# Altium footprint library DCDC.PcbLib: 15 footprints
Each footprint in its own frame and in the unit in brackets; x right, y up, seen from the top. Pads: shape width x height; smd on the part's side, far side on the other; paste and mask are expansions set on the pad; w line width, h text height; cw(c..) or ccw(c..) is an arc to the next point about the centre after c.
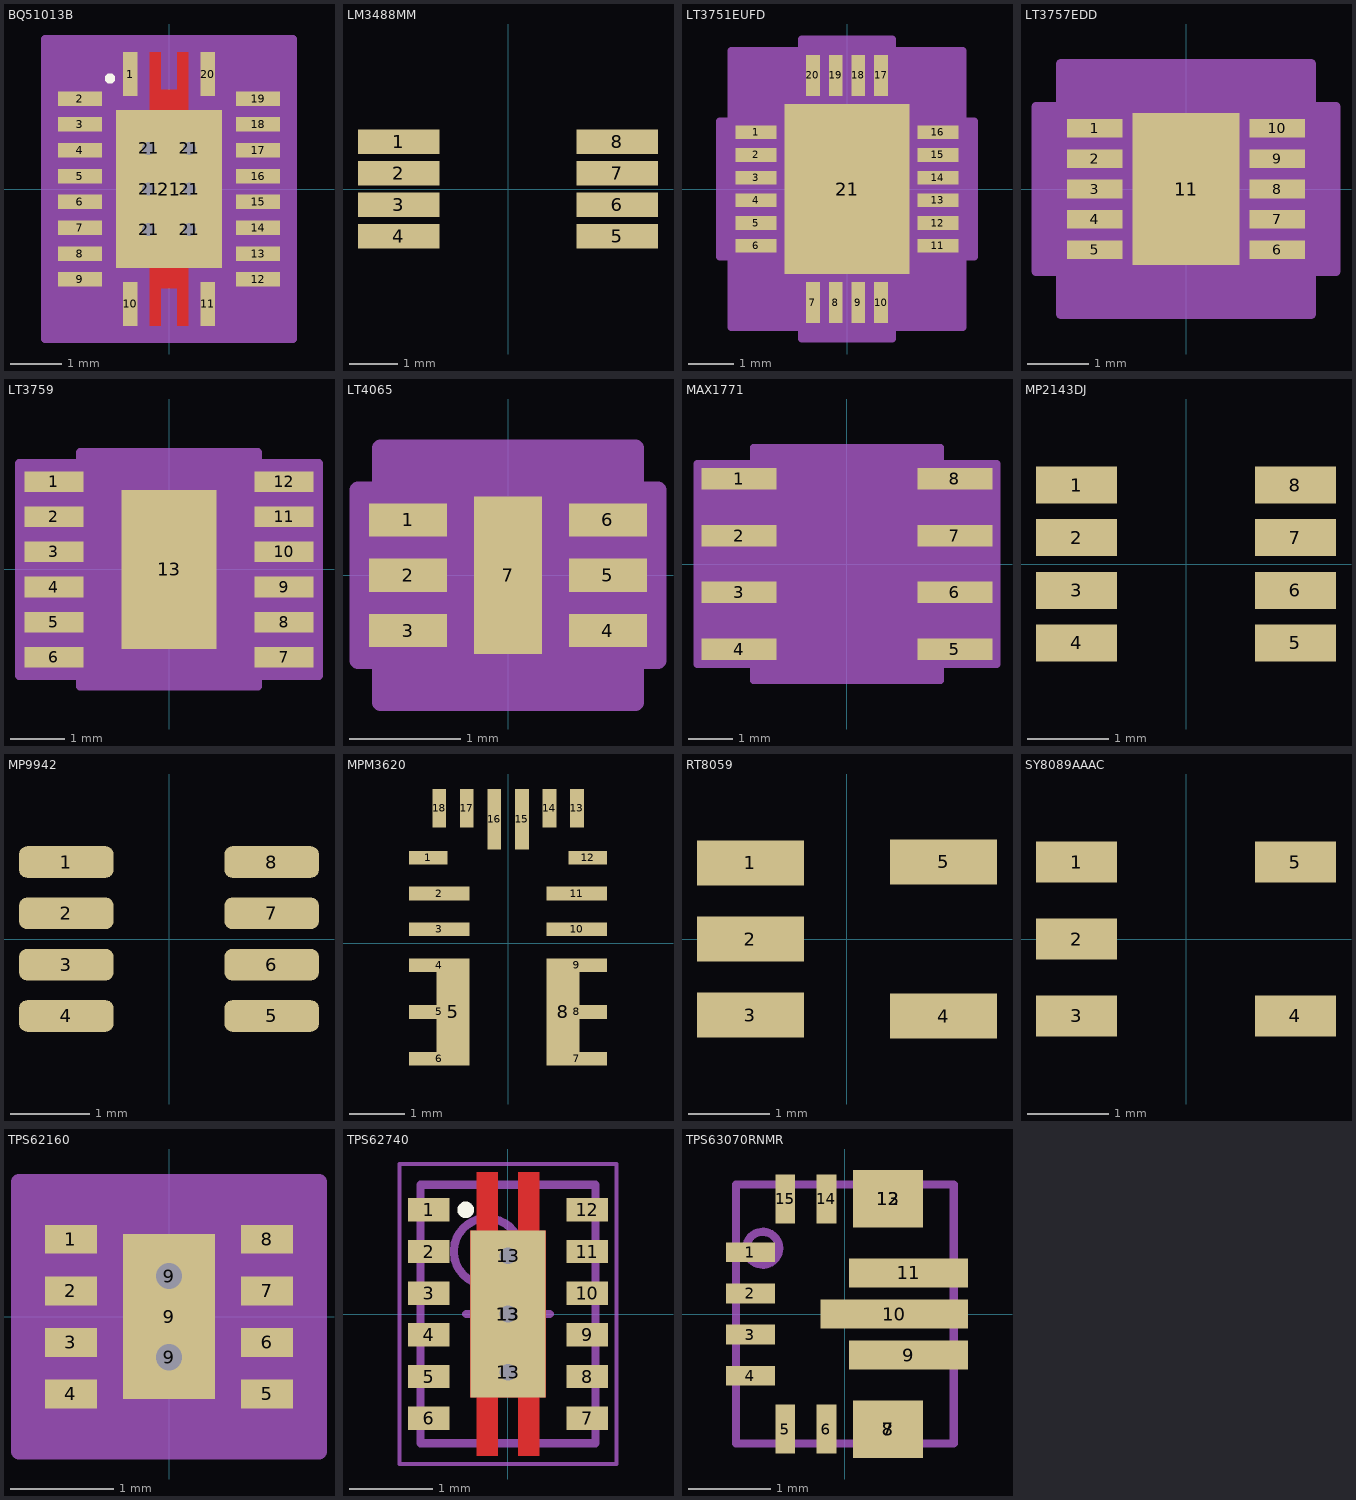
[diagram p0: the footprints below, top view; thin cyan lines are the x and y axes]

## BQ51013B [mm]
pads (27):
  rect 0.28x0.85 smd paste-0.14: 1(-0.75,2.225) 10(-0.75,-2.225) 11(0.75,-2.225) 20(0.75,2.225)
  rect 0.85x0.28 smd paste-0.14: 2(-1.725,1.75) 3(-1.725,1.25) 4(-1.725,0.75) 5(-1.725,0.25) 6(-1.725,-0.25) 7(-1.725,-0.75) 8(-1.725,-1.25) 9(-1.725,-1.75) 12(1.725,-1.75) 13(1.725,-1.25) 14(1.725,-0.75) 15(1.725,-0.25) 16(1.725,0.25) 17(1.725,0.75) 18(1.725,1.25) 19(1.725,1.75)
  round 0.508 / inner round 1.524 / far side round 0.508 hole 0.254: 21(-0.394,-0.787) 21(-0.394,0) 21(-0.394,0.787) 21(0.394,-0.787) 21(0.394,0) 21(0.394,0.787)
  rect 2.05x3.05 smd paste-1.512 mask-1.511: 21(0,0)
Top Layer:
  region: -0.375,-1.525 0.375,-1.525 0.375,-2.65 0.16,-2.65 0.16,-1.925 -0.16,-1.925 -0.16,-2.65 -0.375,-2.65
  region: -0.375,1.525 0.375,1.525 0.375,2.65 0.16,2.65 0.16,1.925 -0.16,1.925 -0.16,2.65 -0.375,2.65
Top Overlay:
  circle w0.1: c-1.143,2.139 r0.05
Top Paste:
  drawing of 36 lines, arcs and shapes, not listed
Top Solder:
  region: 0.594,-1.588 0.594,1.588 1.088,1.588 1.088,-1.588
  region: 0.194,-1.588 0.194,1.588 -0.194,1.588 -0.194,-1.588
  region: -1.088,-1.588 -1.088,1.588 -0.594,1.588 -0.594,-1.588
  region: -1.088,-1.588 -1.088,-0.987 1.088,-0.987 1.088,-1.588
  region: -1.088,-0.587 -1.088,-0.2 1.088,-0.2 1.088,-0.587
  region: -1.088,0.2 -1.088,0.587 1.088,0.587 1.088,0.2
  region: -1.088,0.987 -1.088,1.588 1.088,1.588 1.088,0.987
  region: -0.375,-1.525 0.375,-1.525 0.375,-2.65 0.16,-2.65 0.16,-1.925 -0.16,-1.925 -0.16,-2.65 -0.375,-2.65
  region: -0.375,1.525 0.375,1.525 0.375,2.65 0.16,2.65 0.16,1.925 -0.16,1.925 -0.16,2.65 -0.375,2.65
  region: -0.54,2.72 -0.96,2.72 -0.96,1.73 -0.54,1.73
  region: 0.96,2.72 0.54,2.72 0.54,1.73 0.96,1.73
  region: 2.22,1.96 1.23,1.96 1.23,1.54 2.22,1.54
  region: 2.22,1.46 1.23,1.46 1.23,1.04 2.22,1.04
  region: 2.22,0.96 1.23,0.96 1.23,0.54 2.22,0.54
  region: 2.22,0.46 1.23,0.46 1.23,0.04 2.22,0.04
  region: 2.22,-0.04 1.23,-0.04 1.23,-0.46 2.22,-0.46
  region: 2.22,-0.54 1.23,-0.54 1.23,-0.96 2.22,-0.96
  region: 2.22,-1.04 1.23,-1.04 1.23,-1.46 2.22,-1.46
  region: 2.22,-1.54 1.23,-1.54 1.23,-1.96 2.22,-1.96
  region: 0.96,-1.73 0.54,-1.73 0.54,-2.72 0.96,-2.72
  region: -0.54,-1.73 -0.96,-1.73 -0.96,-2.72 -0.54,-2.72
  region: -1.23,-1.54 -2.22,-1.54 -2.22,-1.96 -1.23,-1.96
  region: -1.23,-1.04 -2.22,-1.04 -2.22,-1.46 -1.23,-1.46
  region: -1.23,-0.54 -2.22,-0.54 -2.22,-0.96 -1.23,-0.96
  region: -1.23,-0.04 -2.22,-0.04 -2.22,-0.46 -1.23,-0.46
  region: -1.23,0.46 -2.22,0.46 -2.22,0.04 -1.23,0.04
  region: -1.23,0.96 -2.22,0.96 -2.22,0.54 -1.23,0.54
  region: -1.23,1.46 -2.22,1.46 -2.22,1.04 -1.23,1.04
  region: -1.23,1.96 -2.22,1.96 -2.22,1.54 -1.23,1.54
Mechanical 15:
  region: 2.404,-2.904 -2.404,-2.904 -2.404,2.904 2.404,2.904
  lines w0.152: -2.404,-2.904 2.404,-2.904 2.404,2.904 -2.404,2.904 -2.404,-2.904
3D body "RHL20_2P05X3P05.stp": height 1, standoff -0.05, extent -1.876,-2.376 1.876,2.376

## LM3488MM [mil]
pads (8):
  rect 66x20 smd: 1(-88.5,38.39) 2(-88.5,12.8) 3(-88.5,-12.8) 4(-88.5,-38.39) 5(88.5,-38.39) 6(88.5,-12.8) 7(88.5,12.8) 8(88.5,38.39)
3D body "DGK0008A.stp": height 43.31, standoff 0, extent -96.49,-58.99 96.5,59

## LT3751EUFD [mm]
pads (21):
  rect 0.906x0.3 smd: 1(-2.003,1.25) 2(-2.003,0.75) 3(-2.003,0.25) 4(-2.003,-0.25) 5(-2.003,-0.75) 6(-2.003,-1.25) 11(2.003,-1.25) 12(2.003,-0.75) 13(2.003,-0.25) 14(2.003,0.25) 15(2.003,0.75) 16(2.003,1.25)
  rect 0.3x0.906 smd: 7(-0.75,-2.503) 8(-0.25,-2.503) 9(0.25,-2.503) 10(0.75,-2.503) 17(0.75,2.503) 18(0.25,2.503) 19(-0.25,2.503) 20(-0.75,2.503)
  rect 2.75x3.75 smd paste-1.862: 21(0,0)
Top Paste:
  region: 1.275,-0.1 0.1,-0.1 0.1,-1.775 1.275,-1.775
  region: 1.275,1.775 0.1,1.775 0.1,0.1 1.275,0.1
  region: -0.1,-0.1 -1.275,-0.1 -1.275,-1.775 -0.1,-1.775
  region: -0.1,1.775 -1.275,1.775 -1.275,0.1 -0.1,0.1
Mechanical 13:
  text "*" at -1.55,1.5 h1.27
Mechanical 15:
  region: -1,-3.058 -2.558,-3.058 -2.558,-1.5 -2.808,-1.5 -2.808,1.5 -2.558,1.5 -2.558,3.058 -1,3.058 -1,3.308 1,3.308 1,3.058 2.558,3.058 2.558,1.5 2.808,1.5 2.808,-1.5 2.558,-1.5 2.558,-3.058 1,-3.058 1,-3.308 -1,-3.308
  lines w0.152: -2.808,-1.5 -2.808,1.5 -2.558,1.5 -2.558,3.058 -1,3.058 -1,3.308 1,3.308 1,3.058 2.558,3.058 2.558,1.5 2.808,1.5 2.808,-1.5 2.558,-1.5 2.558,-3.058 1,-3.058 1,-3.308 -1,-3.308 -1,-3.058 -2.558,-3.058 -2.558,-1.5 -2.808,-1.5
Multi-Layer:
  text "Copyright (C) 2016 Accelerated Designs. All rights reserved" at 0,0 h0.03
3D body "QFN-20_UFD-M.stp": height 0.8, standoff 0, extent -2.101,-2.601 2.101,2.601

## LT3757EDD [mil]
pads (11):
  rect 36x12 smd: 1(-59,39.37) 2(-59,19.68) 3(-59,0) 4(-59,-19.68) 5(-59,-39.37) 6(59,-39.37) 7(59,-19.68) 8(59,0) 9(59,19.68) 10(59,39.37)
  rect 69x98 smd paste-48.5: 11(0,0)
Top Paste:
  region: 34.5,49 -34.5,49 -34.5,-49 34.5,-49
Mechanical 13:
  lines w0: -12,61 ccw(c0,61) 12,61
Mechanical 15:
  region: -81,-53.21 -97,-53.21 -97,53.21 -81,53.21 -81,81 81,81 81,53.21 97,53.21 97,-53.21 81,-53.21 81,-81 -81,-81
  lines w6: -97,-53.21 -81,-53.21 -81,-81 81,-81 81,-53.21 97,-53.21 97,53.21 81,53.21 81,81 -81,81 -81,53.21 -97,53.21 -97,-53.21
3D body "DFN-10_DD-M.stp": height 32.1, standoff 0, extent -63,-61 63,61

## LT3759 [mil]
pads (13):
  rect 43x15 smd: 1(-84,64) 2(-84,38.4) 3(-84,12.8) 4(-84,-12.8) 5(-84,-38.4) 6(-84,-64) 7(84,-64) 8(84,-38.4) 9(84,-12.8) 10(84,12.8) 11(84,38.4) 12(84,64)
  rect 69x116 smd paste-57.5: 13(0,0)
Top Paste:
  region: 30.56,54.06 -30.56,54.06 -30.56,3.94 30.56,3.94
  region: 30.56,-3.94 -30.56,-3.94 -30.56,-54.06 30.56,-54.06
Mechanical 13:
  lines w0: -12,81.5 ccw(c0,81.5) 12,81.5
Mechanical 15:
  region: -65,-77.6 -109.5,-77.6 -109.5,77.6 -65,77.6 -65,85.5 65,85.5 65,77.6 109.5,77.6 109.5,-77.6 65,-77.6 65,-85.5 -65,-85.5
  lines w6: -109.5,-77.6 -109.5,77.6 -65,77.6 -65,85.5 65,85.5 65,77.6 109.5,77.6 109.5,-77.6 65,-77.6 65,-85.5 -65,-85.5 -65,-77.6 -109.5,-77.6
3D body "MSOP-12_MSE-L.stp": height 43.1, standoff -2, extent -99.5,-81.5 99.5,81.5

## LT4065 [mm]
pads (7):
  rect 0.703x0.3 smd: 1(-0.902,0.5) 2(-0.902,0) 3(-0.902,-0.5) 4(0.902,-0.5) 5(0.902,0) 6(0.902,0.5)
  rect 0.61x1.42 smd paste-0.697: 7(0,0)
Top Paste:
  region: 0.305,0.71 -0.305,0.71 -0.305,-0.71 0.305,-0.71
Mechanical 13:
  lines w0: -0.305,1.05 ccw(c0,1.05) 0.305,1.05
Mechanical 15:
  region: -1.152,-0.77 -1.355,-0.77 -1.355,0.77 -1.152,0.77 -1.152,1.152 1.152,1.152 1.152,0.77 1.355,0.77 1.355,-0.77 1.152,-0.77 1.152,-1.152 -1.152,-1.152
  lines w0.152: -1.355,-0.77 -1.355,0.77 -1.152,0.77 -1.152,1.152 1.152,1.152 1.152,0.77 1.355,0.77 1.355,-0.77 1.152,-0.77 1.152,-1.152 -1.152,-1.152 -1.152,-0.77 -1.355,-0.77
3D body "DFN-6_DC-L.stp": height 0.8, standoff 0, extent -1.101,-1.05 1.101,1.05

## MAX1771 [mil]
pads (8):
  rect 66x19 smd paste+0 mask+0: 1(-95,75) 2(-95,25) 3(-95,-25) 4(-95,-75) 5(95,-75) 6(95,-25) 7(95,25) 8(95,75)
Mechanical 15:
  region: -82.5,-88.5 -132,-88.5 -132,88.5 -82.5,88.5 -82.5,102.5 82.5,102.5 82.5,88.5 132,88.5 132,-88.5 82.5,-88.5 82.5,-102.5 -82.5,-102.5
  lines w6: -132,-88.5 -132,88.5 -82.5,88.5 -82.5,102.5 82.5,102.5 82.5,88.5 132,88.5 132,-88.5 82.5,-88.5 82.5,-102.5 -82.5,-102.5 -82.5,-88.5 -132,-88.5
3D body "User Library-SOIC-8-1.STEP": height 68.9, standoff 0, extent -116.57,-96.46 119.65,96.45
3D body: height 10, standoff 0, extent 0,0 10,10

## MP2143DJ [mil]
pads (8):
  rect 39.5x18 smd paste+0 mask+0: 1(-53.25,38.39) 2(-53.25,12.8) 3(-53.25,-12.8) 4(-53.25,-38.39) 5(53.25,-38.39) 6(53.25,-12.8) 7(53.25,12.8) 8(53.25,38.39)
3D body "TSOT23-8_MNP.step": height 39.09, standoff 0, extent -59.01,-59.01 59.02,59.02

## MP9942 [mm]
pads (8):
  rrect50% 1.2x0.4 smd: 1(-1.3,0.975) 2(-1.3,0.325) 3(-1.3,-0.325) 4(-1.3,-0.975) 5(1.3,-0.975) 6(1.3,-0.325) 7(1.3,0.325) 8(1.3,0.975)
3D body "User Library-SOT-23-8 Thin.step": height 1.1, standoff 0, extent -1.48,-1.45 1.478,1.45

## MPM3620 [mm]
pads (20):
  rect 0.7x0.25 smd mask+0.08: 1(-1.45,1.55) 12(1.45,1.55)
  rect 1.1x0.25 smd mask+0.08: 2(-1.25,0.9) 3(-1.25,0.25) 6(-1.25,-2.1) 7(1.25,-2.1) 8(1.25,-1.25) 9(1.25,-0.4) 10(1.25,0.25) 11(1.25,0.9)
  rect 1.1x0.25 smd paste-10 mask+0.08: 4(-1.25,-0.4) 5(-1.25,-1.25)
  rect 0.6x1.7 smd: 5(-1,-1.25)
  rect 0.6x1.7 smd paste+0 mask+0.08: 8(1,-1.25)
  rect 0.25x0.7 smd mask+0.08: 13(1.25,2.45)
  rect 0.25x0.7 smd mask+0.05: 14(0.75,2.45) 17(-0.75,2.45) 18(-1.25,2.45)
  rect 0.25x1.1 smd mask+0.05: 15(0.25,2.25) 16(-0.25,2.25)
Top Paste:
  rectangle: -1.854,-1.372 -1.118,-1.118
  rectangle: -1.854,-0.533 -1.118,-0.279
3D body "MPM3620A.STEP": height 1.6, standoff -0.01, extent -1.501,-2.5 1.501,2.501

## RT8059 [mil]
pads (5):
  rect 52x22 smd paste+0 mask+0: 1(-47,37) 2(-47,0) 3(-47,-37) 4(47,-37.5) 5(47,37.5)
3D body "TSOT-23-5_RIT.step": height 51.1, standoff 0, extent -59.01,-60.98 59.02,60.99

## SY8089AAAC [mil]
pads (5):
  rect 39.5x20 smd paste+0 mask+0: 1(-53.25,37.4) 2(-53.25,0) 3(-53.25,-37.4) 4(53.25,-37.4) 5(53.25,37.4)
3D body "SY8089AAAC_SGY.step": height 55.12, standoff 0, extent -59.01,-60.98 59.02,60.99

## TPS62160 [mm] "DCDC step-down"
pads (11):
  rect 0.5x0.28 smd paste-0.14: 1(-0.95,0.75) 2(-0.95,0.25) 3(-0.95,-0.25) 4(-0.95,-0.75) 5(0.95,-0.75) 6(0.95,-0.25) 7(0.95,0.25) 8(0.95,0.75)
  round 0.508 / inner round 1.524 / far side round 0.508 hole 0.254: 9(0,-0.394) 9(0,0.394)
  rect 0.889x1.6 smd paste-0.787 mask-0.787: 9(0,0)
Top Layer:
  region: 0,0.8
  region: 0,-0.8
Top Paste:
  region: -0.725,0.865 -1.175,0.865 -1.175,0.635 -0.725,0.635
  region: -0.725,0.365 -1.175,0.365 -1.175,0.135 -0.725,0.135
  region: -0.725,-0.135 -1.175,-0.135 -1.175,-0.365 -0.725,-0.365
  region: -0.725,-0.635 -1.175,-0.635 -1.175,-0.865 -0.725,-0.865
  region: 1.175,-0.635 0.725,-0.635 0.725,-0.865 1.175,-0.865
  region: 1.175,-0.135 0.725,-0.135 0.725,-0.365 1.175,-0.365
  region: 1.175,0.365 0.725,0.365 0.725,0.135 1.175,0.135
  region: 1.175,0.865 0.725,0.865 0.725,0.635 1.175,0.635
  region: -0.1,0.725 -0.37,0.725 -0.37,0.494 -0.241,0.494 -0.1,0.635
  region: -0.241,0.294 -0.37,0.294 -0.37,-0.294 -0.241,-0.294 -0.1,-0.152 -0.1,0.152
  region: -0.241,-0.494 -0.37,-0.494 -0.37,-0.725 -0.1,-0.725 -0.1,-0.635
  region: 0.37,0.725 0.1,0.725 0.1,0.635 0.241,0.494 0.37,0.494
  region: 0.37,0.294 0.241,0.294 0.1,0.152 0.1,-0.152 0.241,-0.294 0.37,-0.294
  region: 0.37,-0.494 0.241,-0.494 0.1,-0.635 0.1,-0.725 0.37,-0.725
Top Solder:
  region: -0.63,0.96 -1.27,0.96 -1.27,0.54 -0.63,0.54
  region: -0.63,0.46 -1.27,0.46 -1.27,0.04 -0.63,0.04
  region: -0.63,-0.04 -1.27,-0.04 -1.27,-0.46 -0.63,-0.46
  region: -0.63,-0.54 -1.27,-0.54 -1.27,-0.96 -0.63,-0.96
  region: 1.27,-0.54 0.63,-0.54 0.63,-0.96 1.27,-0.96
  region: 1.27,-0.04 0.63,-0.04 0.63,-0.46 1.27,-0.46
  region: 1.27,0.46 0.63,0.46 0.63,0.04 1.27,0.04
  region: 1.27,0.96 0.63,0.96 0.63,0.54 1.27,0.54
  region: -0.508,0.594 -0.508,0.864 0.508,0.864 0.508,0.594
  region: -0.508,-0.194 -0.508,0.194 0.508,0.194 0.508,-0.194
  region: -0.508,-0.864 -0.508,-0.594 0.508,-0.594 0.508,-0.864
  region: -0.508,-0.864 -0.508,0.864 -0.2,0.864 -0.2,-0.864
  region: 0.2,-0.864 0.2,0.864 0.508,0.864 0.508,-0.864
  region: 0,0.8
  region: 0,-0.8
Mechanical 13:
  lines w0: -0.305,1.054 ccw(c0,1.054) 0.305,1.054
Mechanical 15:
  region: 1.454,-1.308 -1.454,-1.308 -1.454,1.308 1.454,1.308
  lines w0.152: -1.454,-1.308 -1.454,1.308 1.454,1.308 1.454,-1.308 -1.454,-1.308
3D body "DSG8_1P6X0P9.stp": height 0.54, standoff 0, extent -1.105,-1.054 1.105,1.054

## TPS62740 [mm]
pads (16):
  rect 0.5x0.28 smd paste-0.14 mask+0.076: 1(-0.95,1.25) 2(-0.95,0.75) 3(-0.95,0.25) 4(-0.95,-0.25) 5(-0.95,-0.75) 6(-0.95,-1.25) 7(0.95,-1.25) 8(0.95,-0.75) 9(0.95,-0.25) 10(0.95,0.25) 11(0.95,0.75) 12(0.95,1.25)
  round 0.5 / inner round 1.524 / far side round 0.5 hole 0.2 mask+0.051: 13(0,0) 13(0,-0.7) 13(0,0.7)
  rect 0.9x2 smd paste-0.45 mask+0.076: 13(0,0)
Top Layer:
  region: -0.125,-1.7 -0.375,-1.7 -0.375,-1 -0.45,-1 -0.45,1 -0.375,1 -0.375,1.7 -0.125,1.7 -0.125,1 0.125,1 0.125,1.7 0.375,1.7 0.375,1 0.45,1 0.45,-1 0.375,-1 0.375,-1.7 0.125,-1.7 0.125,-1 -0.125,-1
Top Overlay:
  circle w0.1: c-0.508,1.25 r0.05
Top Paste:
  region: -1.2,0.375 -1.2,0.125 -0.7,0.125 -0.7,0.375
  region: -0.375,1.7 -0.375,1.1 -0.125,1.1 -0.125,1.7
  region: -0.35,0.8 -0.35,-0.8 0.35,-0.8 0.35,0.8
  region: 0.375,1.1 0.375,1.7 0.125,1.7 0.125,1.1
  region: 0.375,-1.7 0.375,-1.1 0.125,-1.1 0.125,-1.7
  region: -0.375,-1.1 -0.375,-1.7 -0.125,-1.7 -0.125,-1.1
  region: -1.2,0.875 -1.2,0.625 -0.7,0.625 -0.7,0.875
  region: -1.2,1.375 -1.2,1.125 -0.7,1.125 -0.7,1.375
  region: -1.2,-0.125 -1.2,-0.375 -0.7,-0.375 -0.7,-0.125
  region: -1.2,-0.625 -1.2,-0.875 -0.7,-0.875 -0.7,-0.625
  region: -1.2,-1.125 -1.2,-1.375 -0.7,-1.375 -0.7,-1.125
  region: 0.7,-1.125 0.7,-1.375 1.2,-1.375 1.2,-1.125
  region: 0.7,-0.625 0.7,-0.875 1.2,-0.875 1.2,-0.625
  region: 0.7,-0.125 0.7,-0.375 1.2,-0.375 1.2,-0.125
  region: 0.7,0.375 0.7,0.125 1.2,0.125 1.2,0.375
  region: 0.7,0.875 0.7,0.625 1.2,0.625 1.2,0.875
  region: 0.7,1.375 0.7,1.125 1.2,1.125 1.2,1.375
Mechanical 13:
  circle w0.1: c-0.25,0.75 r0.4
  lines w0.1: -1.05,-1.55 -1.05,1.55 1.05,1.55 1.05,-1.55 -1.05,-1.55
Mechanical 15:
  lines w0.05: -1.3,-1.8 -1.3,1.8 1.3,1.8 1.3,-1.8 -1.3,-1.8
  lines w0.1: -0.5,0 0.5,0 ; 0,-0.5 0,0.5
3D body "DSS0012A.stp": height 0.8, standoff 0, extent -1,-1.5 1,1.5

## TPS63070RNMR [mm] "VQFN 15"
pads (15):
  rect 0.6x0.24 smd paste+0 mask+0.051: 1(-1.15,0.75) 2(-1.15,0.25) 3(-1.15,-0.25) 4(-1.15,-0.75)
  rect 0.24x0.6 smd paste+0 mask+0.051: 5(-0.725,-1.4) 6(-0.225,-1.4) 14(-0.225,1.4) 15(-0.725,1.4)
  rect 0.85x0.7 smd paste-0.35 mask-0.356: 7(0.525,-1.4) 8(0.525,-1.4) 12(0.525,1.4) 13(0.525,1.4)
  rect 1.45x0.35 smd paste-0.712 mask-0.051: 9(0.775,-0.5) 11(0.775,0.5)
  rect 1.8x0.35 smd paste-0.887 mask-0.051: 10(0.6,0)
Top Paste:
  drawing of 12 lines, arcs and shapes, not listed
Top Solder:
  drawing of 6 lines, arcs and shapes, not listed
Mechanical 13:
  circle w0.1: c-1,0.8 r0.2
  lines w0.1: -1.325,-1.575 1.325,-1.575 1.325,1.575 -1.325,1.575 -1.325,-1.575
3D body "RNM0015A.stp": height 1, standoff 0, extent -1.25,-1.5 1.25,1.5
3D body: height 0.25, standoff 0, extent 0,0 0.254,0.254